# Altium schematic symbol library LIS3MDLTR.SchLib: 1 symbol
Pins are listed as number, name and electrical type; pins without a type are passive.

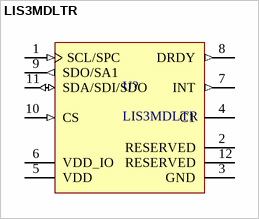
[diagram p0: symbol LIS3MDLTR]

## LIS3MDLTR
designator U?
Board Mount Hall Effect / Magnetic Sensors Ultra Lo-Pwr Hi Perf 3-Axis 1.9-3.6V; Supplier 1: Mouser; Supplier Part Number 1: 511-LIS3MDLTR
footprint LIS3MDLTR (Board Mount Hall Effect / Magnetic Sensors Ultra Lo-Pwr Hi Perf 3-Axis 1.9-3.6V)
pins: 1 SCL/SPC (in), 2 RESERVED "Connect to GND", 3 GND (power) "Connect to GND", 4 C1 "Capacitor connection (C1=100 nF)", 5 VDD (power) "Power supply", 6 VDD_IO (power) "Power supply for I/O pins", 7 INT (out) "Interrupt", 8 DRDY (out) "Data Ready", 9 SDO/SA1 (out), 10 CS (in) "SPI enable,I2C/SPI mode selection,(1: SPI idle mode / I2C communication enabled;0: SPI communication mode / I2C disabled)", 11 SDA/SDI/SDO (io), 12 RESERVED "Connect to GND"